# Altium footprint library SM_TRANSZORB_SOT23_A_C_C.PcbLib: 1 footprints
Each footprint in its own frame and in the unit in brackets; x right, y up, seen from the top. Pads: shape width x height; smd on the part's side, far side on the other; paste and mask are expansions set on the pad; w line width, h text height; cw(c..) or ccw(c..) is an arc to the next point about the centre after c.
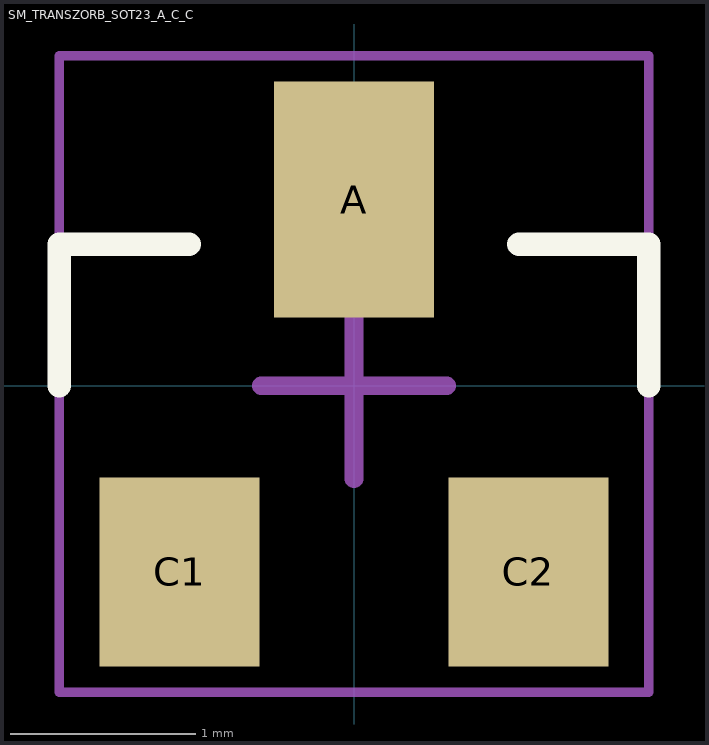
[diagram p0: the footprint, top view; thin cyan lines are the x and y axes]

## SM_TRANSZORB_SOT23_A_C_C [mil]
pads (3):
  rect 34x50 smd mask+3: A(0,39.5)
  rect 34x40 smd mask+3: C1(-37,-39.5) C2(37,-39.5)
Top Overlay:
  lines w5: -62.5,0 -62.5,30 -35,30 ; 35,30 62.5,30 62.5,0
Mechanical 15:
  lines w1.97: -62.5,-65 -62.5,70 62.5,70 62.5,-65 -62.5,-65
  lines w3.94: -19.68,0 19.69,0 ; 0,-19.68 0,19.69
3D body: height 43.31, standoff 0.51, extent -57.08,-25.59 57.09,25.59